# EAGLE library part CC1180_RSP_36 (library CC11x)
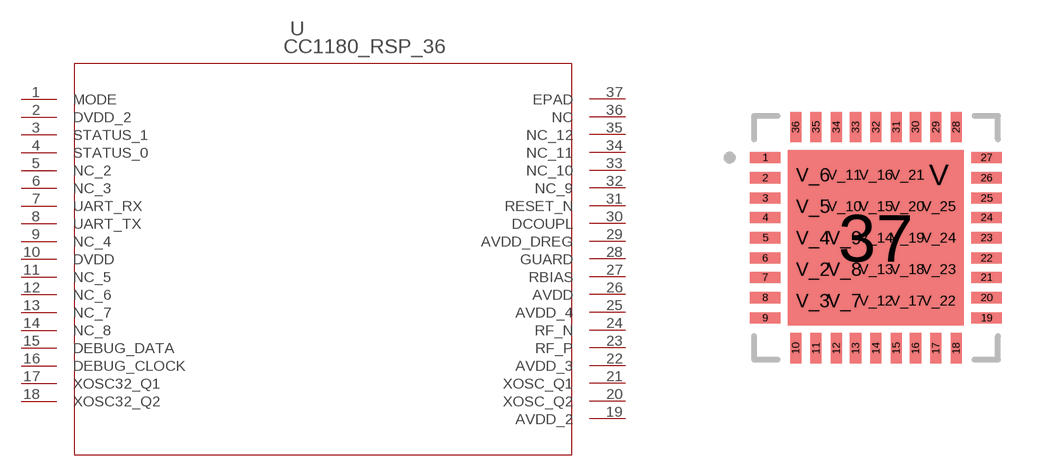
[diagram p0: symbol with the pads of RSP36_4P4X4P4; footprint RSP36_4P4X4P4]

Designator prefix U

## CC1180_RSP_36 (DATASHEETURL: http://www.ti.com/lit/gpn/CC1180; DESCRIPTION: Sub-GHz 6LoWPAN Network Processor; FAMILY_NAME: 6LoWPAN; GENERIC_PART_NUMBER: CC1180; INDUSTRY_STD_PKG_TYPE: VQFN; MANUFACTURER: Texas Instruments; PACKAGE_DESIGNATOR: RSP; PIN_COUNT: 36)  [RSP36_4P4X4P4]
1  MODE  in
2  DVDD_2  pwr
3  STATUS_1  out
4  STATUS_0  out
5  NC_2  nc
6  NC_3  nc
7  UART_RX  in
8  UART_TX  out
9  NC_4  nc
10  DVDD  pwr
11  NC_5  nc
12  NC_6  nc
13  NC_7  nc
14  NC_8  nc
15  DEBUG_DATA
16  DEBUG_CLOCK
17  XOSC32_Q1
18  XOSC32_Q2
19  AVDD_2  pwr
20  XOSC_Q2
21  XOSC_Q1
22  AVDD_3  pwr
23  RF_P
24  RF_N
25  AVDD_4  pwr
26  AVDD  pwr
27  RBIAS
28  GUARD  pwr
29  AVDD_DREG  pwr
30  DCOUPL  pwr
31  RESET_N  in
32  NC_9  nc
33  NC_10  nc
34  NC_11  nc
35  NC_12  nc
36  NC  nc
37  EPAD  pwr

## Footprint RSP36_4P4X4P4 (pad centres in mm)
smd 0.762 x 0.279: 1 -2.769,2.007; 2 -2.769,1.499; 3 -2.769,0.991; 4 -2.769,0.508; 5 -2.769,0; 6 -2.769,-0.508; 7 -2.769,-0.991; 8 -2.769,-1.499; 9 -2.769,-2.007; 19 2.769,-2.007; 20 2.769,-1.499; 21 2.769,-0.991; 22 2.769,-0.508; 23 2.769,0; 24 2.769,0.508; 25 2.769,0.991; 26 2.769,1.499; 27 2.769,2.007
smd 0.279 x 0.762: 10 -2.007,-2.769; 11 -1.499,-2.769; 12 -0.991,-2.769; 13 -0.508,-2.769; 14 0,-2.769; 15 0.508,-2.769; 16 0.991,-2.769; 17 1.499,-2.769; 18 2.007,-2.769; 28 2.007,2.769; 29 1.499,2.769; 30 0.991,2.769; 31 0.508,2.769; 32 0,2.769; 33 -0.508,2.769; 34 -0.991,2.769; 35 -1.499,2.769; 36 -2.007,2.769
smd 4.394 x 4.394: 37 0,0
drill 0.254: V 1.575,1.575; V_2 -1.575,-0.787; V_3 -1.575,-1.575; V_4 -1.575,0; V_5 -1.575,0.787; V_6 -1.575,1.575; V_7 -0.787,-1.575; V_8 -0.787,-0.787; V_9 -0.787,0; V_10 -0.787,0.787; V_11 -0.787,1.575; V_12 0,-1.575; V_13 0,-0.787; V_14 0,0; V_15 0,0.787; V_16 0,1.575; V_17 0.787,-1.575; V_18 0.787,-0.787; V_19 0.787,0; V_20 0.787,0.787; V_21 0.787,1.575; V_22 1.575,-1.575; V_23 1.575,-0.787; V_24 1.575,0; V_25 1.575,0.787